# Altium schematic symbol library Vowstar_Module.SchLib: 55 symbols
Pins are listed as number, name and electrical type; pins without a type are passive.

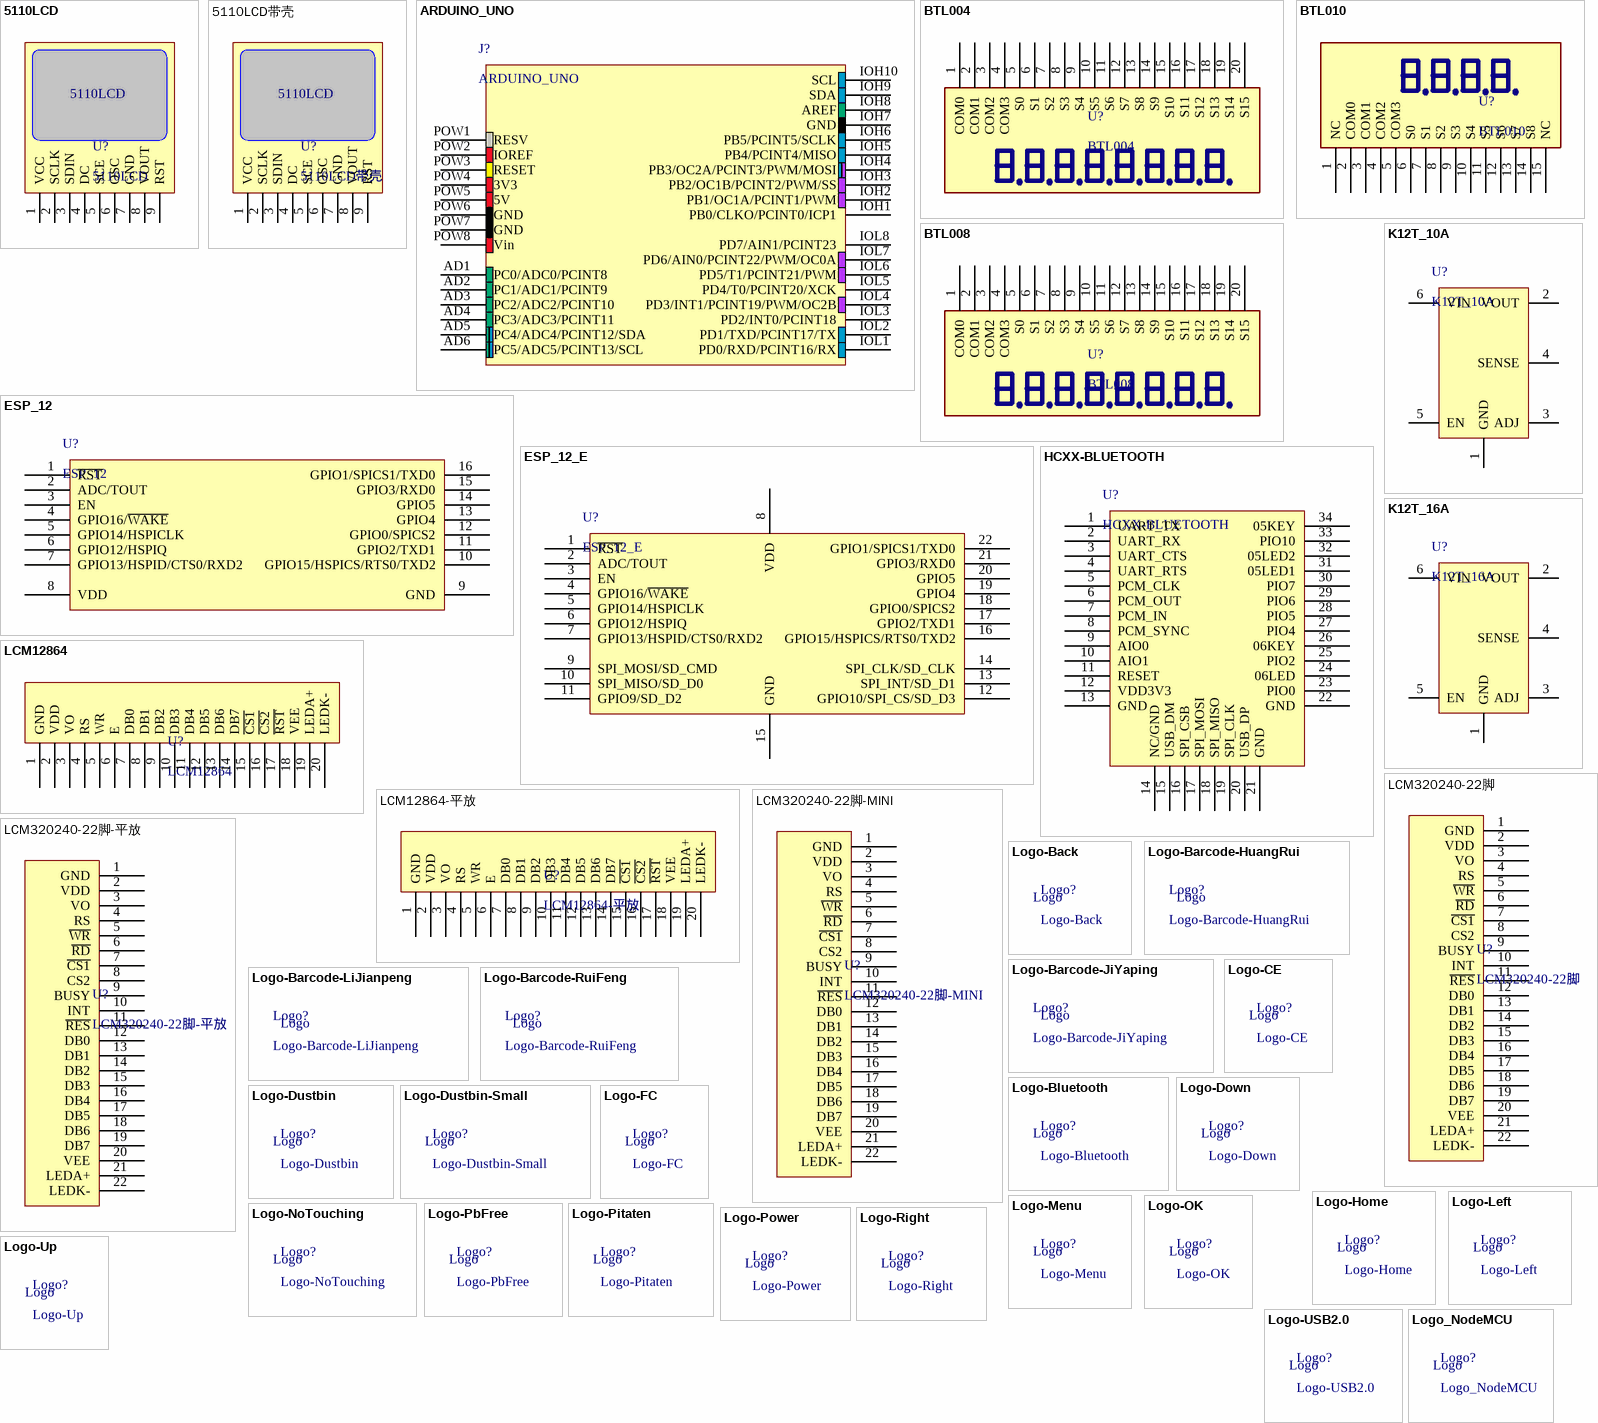
[diagram p0: symbols 5110LCD to Logo_NodeMCU]

## 5110LCD
designator U?
footprint 5110LCD
pins: 1 VCC, 2 SCLK, 3 SDIN, 4 DC, 5 SCE, 6 OSC, 7 GND, 8 VOUT, 9 RST

## 5110LCD带壳
designator U?
footprint 5110LCD带壳
pins: 1 VCC, 2 SCLK, 3 SDIN, 4 DC, 5 SCE, 6 OSC, 7 GND, 8 VOUT, 9 RST
text: 5110LCD

## ARDUINO_UNO
designator J?
Arduino UNO Connector
footprint ARDUINO_UNO
pins: AD1 PC0/ADC0/PCINT8, AD2 PC1/ADC1/PCINT9, AD3 PC2/ADC2/PCINT10, AD4 PC3/ADC3/PCINT11, AD5 PC4/ADC4/PCINT12/SDA, AD6 PC5/ADC5/PCINT13/SCL, IOH1 PB0/CLKO/PCINT0/ICP1, IOH2 PB1/OC1A/PCINT1/PWM, IOH3 PB2/OC1B/PCINT2/PWM/SS, IOH4 PB3/OC2A/PCINT3/PWM/MOSI, IOH5 PB4/PCINT4/MISO, IOH6 PB5/PCINT5/SCLK, IOH7 GND, IOH8 AREF, IOH9 SDA, IOH10 SCL, IOL1 PD0/RXD/PCINT16/RX, IOL2 PD1/TXD/PCINT17/TX, IOL3 PD2/INT0/PCINT18, IOL4 PD3/INT1/PCINT19/PWM/OC2B, IOL5 PD4/T0/PCINT20/XCK, IOL6 PD5/T1/PCINT21/PWM, IOL7 PD6/AIN0/PCINT22/PWM/OC0A, IOL8 PD7/AIN1/PCINT23, POW1 RESV, POW2 IOREF, POW3 RESET, POW4 3V3, POW5 5V, POW6 GND, POW7 GND, POW8 Vin

## BTL004
designator U?
footprint BTL004
pins: 1 COM0, 2 COM1, 3 COM2, 4 COM3, 5 S0, 6 S1, 7 S2, 8 S3, 9 S4, 10 S5, 11 S6, 12 S7, 13 S8, 14 S9, 15 S10, 16 S11, 17 S12, 18 S13, 19 S14, 20 S15

## BTL008
designator U?
footprint BTL008
pins: 1 COM0, 2 COM1, 3 COM2, 4 COM3, 5 S0, 6 S1, 7 S2, 8 S3, 9 S4, 10 S5, 11 S6, 12 S7, 13 S8, 14 S9, 15 S10, 16 S11, 17 S12, 18 S13, 19 S14, 20 S15

## BTL010
designator U?
footprint BTL010
pins: 1 NC, 2 COM0, 3 COM1, 4 COM2, 5 COM3, 6 S0, 7 S1, 8 S2, 9 S3, 10 S4, 11 S5, 12 S6, 13 S7, 14 S8, 15 NC

## ESP_12
designator U?
ESP-12 Wi-Fi Module by AI-Thinker; IC: ESP8266-EX; Vendor: Ai-thinker
footprint ESP_12 (ESP-12 Wi-Fi Module by AI-Thinker)
pins: 1 ~{RST} "Reset", 2 ADC/TOUT "ADC Input Or TOUT Output", 3 EN "Chip enable", 4 GPIO16/~{WAKE} "GPIO16 or Deep-Sleep Wakeup", 5 GPIO14/HSPICLK "GPIO14 or SPI CLK", 6 GPIO12/HSPIQ "GPIO12 or SPIQ", 7 GPIO13/HSPID/CTS0/RXD2 "GPIO13 or SPID", 8 VDD "Power supply", 9 GND "Power ground", 10 GPIO15/HSPICS/RTS0/TXD2 "GPIO15 or SPICS", 11 GPIO2/TXD1 "GPIO2 or TX", 12 GPIO0/SPICS2 "GPIO0 or SPICS2", 13 GPIO4 "GPIO5", 14 GPIO5 "GPIO4", 15 GPIO3/RXD0 "GPIO3 or UART RXD", 16 GPIO1/SPICS1/TXD0 "GPIO1 or UART TXD"

## ESP_12_E
designator U?
ESP-12 Wi-Fi Module by AI-Thinker; IC: ESP8266-EX; Vendor: Ai-thinker
footprint ESP_12_E (ESP-12 Wi-Fi Module by AI-Thinker)
footprint ESP_12_E_L (ESP-12 Wi-Fi Module by AI-Thinker)
footprint ESP_12_F (ESP-12 Wi-Fi Module by AI-Thinker)
footprint ESP_12_F_L (ESP-12 Wi-Fi Module by AI-Thinker)
pins: 1 ~{RST} "Reset", 2 ADC/TOUT "ADC Input Or TOUT Output", 3 EN "Chip enable", 4 GPIO16/~{WAKE} "GPIO16 or Deep-Sleep Wakeup", 5 GPIO14/HSPICLK "GPIO14 or SPI CLK", 6 GPIO12/HSPIQ "GPIO12 or SPIQ", 7 GPIO13/HSPID/CTS0/RXD2 "GPIO13 or SPID", 8 VDD "Power supply", 9 SPI_MOSI/SD_CMD "GPIO14 or SPI CLK", 10 SPI_MISO/SD_D0 "GPIO12 or SPIQ", 11 GPIO9/SD_D2 "GPIO13 or SPID", 12 GPIO10/SPI_CS/SD_D3 "GPIO15 or SPICS", 13 SPI_INT/SD_D1 "GPIO2 or TX", 14 SPI_CLK/SD_CLK "GPIO0 or SPICS2", 15 GND "Power ground", 16 GPIO15/HSPICS/RTS0/TXD2 "GPIO15 or SPICS", 17 GPIO2/TXD1 "GPIO2 or TX", 18 GPIO0/SPICS2 "GPIO0 or SPICS2", 19 GPIO4 "GPIO5", 20 GPIO5 "GPIO4", 21 GPIO3/RXD0 "GPIO3 or UART RXD", 22 GPIO1/SPICS1/TXD0 "GPIO1 or UART TXD"

## HCXX-BLUETOOTH
designator U?
footprint HCXX-BLUETOOTH
pins: 1 UART_TX, 2 UART_RX, 3 UART_CTS, 4 UART_RTS, 5 PCM_CLK, 6 PCM_OUT, 7 PCM_IN, 8 PCM_SYNC, 9 AIO0, 10 AIO1, 11 RESET, 12 VDD3V3, 13 GND, 14 NC/GND, 15 USB_DM, 16 SPI_CSB, 17 SPI_MOSI, 18 SPI_MISO, 19 SPI_CLK, 20 USB_DP, 21 GND, 22 GND, 23 PIO0, 24 06LED, 25 PIO2, 26 06KEY, 27 PIO4, 28 PIO5, 29 PIO6, 30 PIO7, 31 05LED1, 32 05LED2, 33 PIO10, 34 05KEY

## K12T_10A
designator U?
Non-isolated & regulated 10A, 16A single output / POL power converter
footprint K12T_POL_MODULE (Non-isolated voltage regulator single 10/16A output, POL module power supply)
pins: 1 GND "Ground pin.", 2 VOUT "Power output", 3 ADJ "Trim function for output voltage adjustment", 4 SENSE "Remote Sense feedback Pin", 5 EN "Drive this pin to a logic-high to enable the IC. Drive to a logic-low to disable the IC and enter micro-power shutdown mode.", 6 VIN "Power supply Pin"

## K12T_16A
designator U?
Non-isolated & regulated 10A, 16A single output / POL power converter
footprint K12T_POL_MODULE (Non-isolated voltage regulator single 10/16A output, POL module power supply)
pins: 1 GND "Ground pin.", 2 VOUT "Power output", 3 ADJ "Trim function for output voltage adjustment", 4 SENSE "Remote Sense feedback Pin", 5 EN "Drive this pin to a logic-high to enable the IC. Drive to a logic-low to disable the IC and enter micro-power shutdown mode.", 6 VIN "Power supply Pin"

## LCM12864
designator U?
footprint LCM12864
pins: 1 GND, 2 VDD, 3 VO, 4 RS, 5 WR, 6 E, 7 DB0, 8 DB1, 9 DB2, 10 DB3, 11 DB4, 12 DB5, 13 DB6, 14 DB7, 15 ~{CS1}, 16 ~{CS2}, 17 ~{RST}, 18 VEE, 19 LEDA+, 20 LEDK-

## LCM12864-平放
designator U?
footprint LCM12864-平放
pins: 1 GND, 2 VDD, 3 VO, 4 RS, 5 WR, 6 E, 7 DB0, 8 DB1, 9 DB2, 10 DB3, 11 DB4, 12 DB5, 13 DB6, 14 DB7, 15 ~{CS1}, 16 ~{CS2}, 17 ~{RST}, 18 VEE, 19 LEDA+, 20 LEDK-

## LCM320240-22脚
designator U?
footprint LCM320240-22脚
pins: 1 GND, 2 VDD, 3 VO, 4 RS, 5 ~{WR}, 6 ~{RD}, 7 ~{CS1}, 8 CS2, 9 BUSY, 10 INT, 11 ~{RES}, 12 DB0, 13 DB1, 14 DB2, 15 DB3, 16 DB4, 17 DB5, 18 DB6, 19 DB7, 20 VEE, 21 LEDA+, 22 LEDK-

## LCM320240-22脚-MINI
designator U?
footprint LCM320240-22脚-Mini (LCM320240-22脚)
pins: 1 GND, 2 VDD, 3 VO, 4 RS, 5 ~{WR}, 6 ~{RD}, 7 ~{CS1}, 8 CS2, 9 BUSY, 10 INT, 11 ~{RES}, 12 DB0, 13 DB1, 14 DB2, 15 DB3, 16 DB4, 17 DB5, 18 DB6, 19 DB7, 20 VEE, 21 LEDA+, 22 LEDK-

## LCM320240-22脚-平放
designator U?
footprint LCM320240-22脚-平放
pins: 1 GND, 2 VDD, 3 VO, 4 RS, 5 ~{WR}, 6 ~{RD}, 7 ~{CS1}, 8 CS2, 9 BUSY, 10 INT, 11 ~{RES}, 12 DB0, 13 DB1, 14 DB2, 15 DB3, 16 DB4, 17 DB5, 18 DB6, 19 DB7, 20 VEE, 21 LEDA+, 22 LEDK-

## Logo-Back
designator Logo?
footprint LOGO-BACK
text: Logo

## Logo-Barcode-HuangRui
designator Logo?
footprint Logo-Barcode-HuangRui
footprint Logo-Barcode-HuangRui-Big (Logo-Barcode-HuangRui)
text: Logo

## Logo-Barcode-JiYaping
designator Logo?
footprint Logo-Barcode-JiYaping-Big (Logo-Barcode-JiYaping)
text: Logo

## Logo-Barcode-LiJianpeng
designator Logo?
footprint Logo-Barcode-LiJianpeng
text: Logo

## Logo-Barcode-RuiFeng
designator Logo?
footprint LOGO-BARCODE-RUIFENG
text: Logo

## Logo-Bluetooth
designator Logo?
footprint Logo-Bluetooth
text: Logo

## Logo-CE
designator Logo?
footprint Logo-CE
text: Logo

## Logo-Down
designator Logo?
footprint LOGO-DOWN
text: Logo

## Logo-Dustbin
designator Logo?
footprint LOGO-DUSTBIN
text: Logo

## Logo-Dustbin-Small
designator Logo?
footprint Logo-Dustbin-Small
text: Logo

## Logo-FC
designator Logo?
footprint Logo-FC
text: Logo

## Logo-Home
designator Logo?
footprint LOGO-HOME
text: Logo

## Logo-Left
designator Logo?
footprint LOGO-LEFT
text: Logo

## Logo-Menu
designator Logo?
footprint LOGO-MENU
text: Logo

## Logo-NoTouching
designator Logo?
footprint LOGO-NOTOUCHING
text: Logo

## Logo-OK
designator Logo?
footprint LOGO-OK
text: Logo

## Logo-PbFree
designator Logo?
footprint LOGO-PBFREE
text: Logo

## Logo-Pitaten
designator Logo?
footprint Logo-Pitaten
text: Logo

## Logo-Power
designator Logo?
footprint LOGO-POWER
text: Logo

## Logo-Right
designator Logo?
footprint LOGO-RIGHT
text: Logo

## Logo-Up
designator Logo?
footprint LOGO-UP
text: Logo

## Logo-USB2.0
designator Logo?
footprint Logo-USB2.0
text: Logo

## Logo_NodeMCU
designator Logo?
Logo NodeMCU
footprint Logo_NodeMCU_700x992 (Logo NodeMCU)
text: Logo

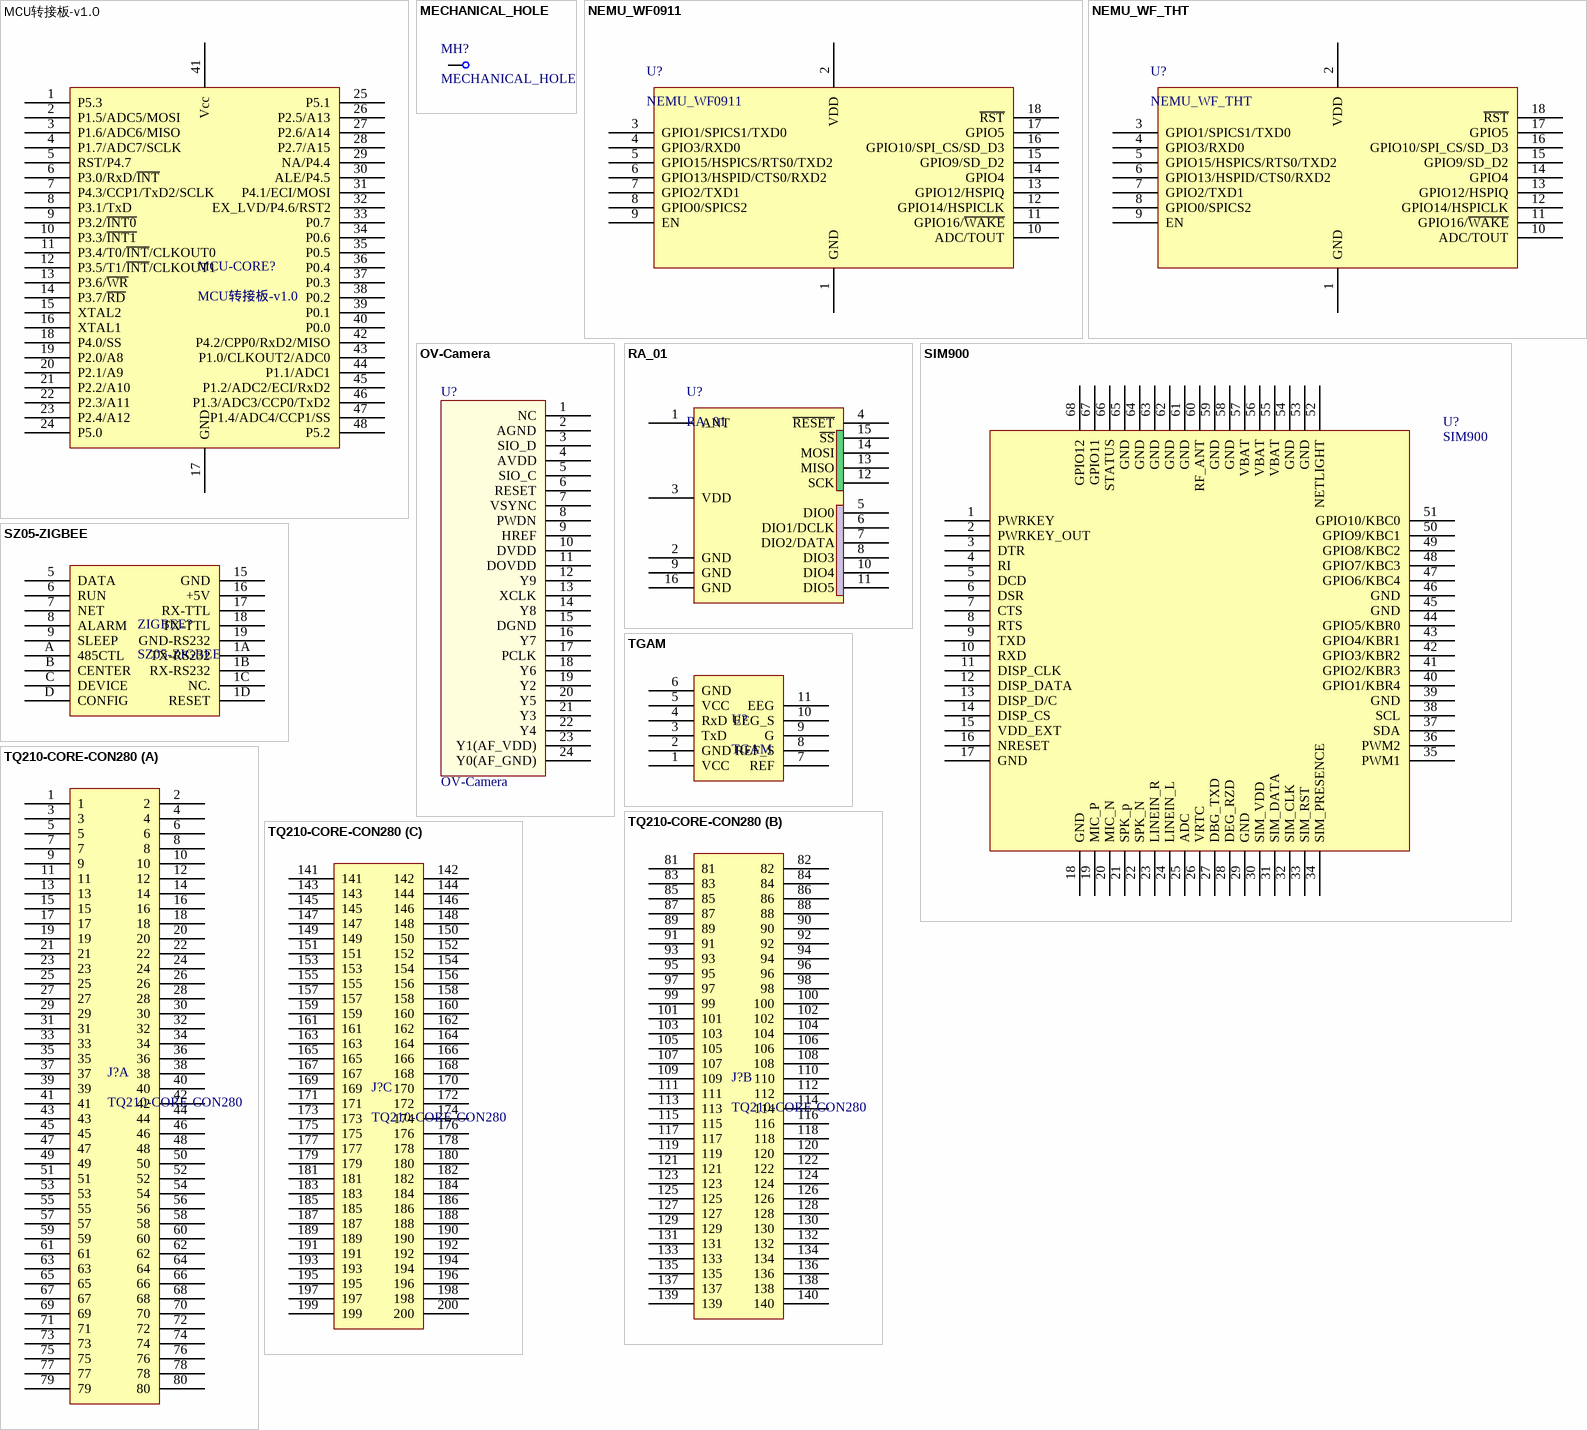
[diagram p1: symbols MCU转接板-v1.0 to TQ210-CORE-CON280]

## MCU转接板-v1.0
designator MCU-CORE?
footprint MCU转接板-v1.0
pins: 1 P5.3, 2 P1.5/ADC5/MOSI, 3 P1.6/ADC6/MISO, 4 P1.7/ADC7/SCLK, 5 RST/P4.7, 6 P3.0/RxD/~{INT}, 7 P4.3/CCP1/TxD2/SCLK, 8 P3.1/TxD, 9 P3.2/~{INT0}, 10 P3.3/~{INT1}, 11 P3.4/T0/~{INT}/CLKOUT0, 12 P3.5/T1/~{INT}/CLKOUT1, 13 P3.6/~{WR}, 14 P3.7/~{RD}, 15 XTAL2, 16 XTAL1, 17 GND, 18 P4.0/SS, 19 P2.0/A8, 20 P2.1/A9, 21 P2.2/A10, 22 P2.3/A11, 23 P2.4/A12, 24 P5.0, 25 P5.1, 26 P2.5/A13, 27 P2.6/A14, 28 P2.7/A15, 29 NA/P4.4, 30 ALE/P4.5, 31 P4.1/ECI/MOSI, 32 EX_LVD/P4.6/RST2, 33 P0.7, 34 P0.6, 35 P0.5, 36 P0.4, 37 P0.3, 38 P0.2, 39 P0.1, 40 P0.0, 41 Vcc, 42 P4.2/CPP0/RxD2/MISO, 43 P1.0/CLKOUT2/ADC0, 44 P1.1/ADC1, 45 P1.2/ADC2/ECI/RxD2, 46 P1.3/ADC3/CCP0/TxD2, 47 P1.4/ADC4/CCP1/SS, 48 P5.2

## MECHANICAL_HOLE
designator MH?
Mechanical hole for mounting and fixing
footprint MH_3MM_6VIA (Mechanical hole 3mm , for installation and fixing)
footprint MH_3MM_12VIA (Mechanical hole 3mm , for installation and fixing)
pins: 1

## NEMU_WF0911
designator U?
NEMU_WF0911 Wi-Fi Module by Vowstar Co., Ltd.; IC: ESP8266-EX; Vendor: Vowstar Co., Ltd.
footprint NEMU_WF1006 (NEMU Wi-Fi Module by Vowstar)
pins: 1 GND "Power ground", 2 VDD "Power supply", 3 GPIO1/SPICS1/TXD0 "GPIO1 or UART TXD", 4 GPIO3/RXD0 "GPIO3 or UART RXD", 5 GPIO15/HSPICS/RTS0/TXD2 "GPIO15 or SPICS", 6 GPIO13/HSPID/CTS0/RXD2 "GPIO13 or SPID", 7 GPIO2/TXD1 "GPIO2 or TX", 8 GPIO0/SPICS2 "GPIO0 or SPICS2", 9 EN "Chip enable", 10 ADC/TOUT "ADC Input Or TOUT Output", 11 GPIO16/~{WAKE} "GPIO16 or Deep-Sleep Wakeup", 12 GPIO14/HSPICLK "GPIO14 or SPI CLK", 13 GPIO12/HSPIQ "GPIO12 or SPIQ", 14 GPIO4 "GPIO5", 15 GPIO9/SD_D2 "GPIO13 or SPID", 16 GPIO10/SPI_CS/SD_D3 "GPIO15 or SPICS", 17 GPIO5 "GPIO4", 18 ~{RST} "Reset"

## NEMU_WF_THT
designator U?
NEMU WF1006/0911 Wi-Fi Module, THT Package.; IC: ESP8266-EX; Vendor: Vowstar Co., Ltd.
footprint NEMU_WF1006 (NEMU Wi-Fi Module by Vowstar)
footprint NEMU_WF0911 (NEMU Wi-Fi Module by Vowstar)
pins: 1 GND "Power ground", 2 VDD "Power supply", 3 GPIO1/SPICS1/TXD0 "GPIO1 or UART TXD", 4 GPIO3/RXD0 "GPIO3 or UART RXD", 5 GPIO15/HSPICS/RTS0/TXD2 "GPIO15 or SPICS", 6 GPIO13/HSPID/CTS0/RXD2 "GPIO13 or SPID", 7 GPIO2/TXD1 "GPIO2 or TX", 8 GPIO0/SPICS2 "GPIO0 or SPICS2", 9 EN "Chip enable", 10 ADC/TOUT "ADC Input Or TOUT Output", 11 GPIO16/~{WAKE} "GPIO16 or Deep-Sleep Wakeup", 12 GPIO14/HSPICLK "GPIO14 or SPI CLK", 13 GPIO12/HSPIQ "GPIO12 or SPIQ", 14 GPIO4 "GPIO5", 15 GPIO9/SD_D2 "GPIO13 or SPID", 16 GPIO10/SPI_CS/SD_D3 "GPIO15 or SPICS", 17 GPIO5 "GPIO4", 18 ~{RST} "Reset"

## OV-Camera
designator U?
OV9650/OV2460/OV3640/OV5640
footprint OV-Camera (OV9650/OV2460/OV3640/OV5640)
pins: 1 NC, 2 AGND, 3 SIO_D, 4 AVDD, 5 SIO_C, 6 RESET, 7 VSYNC, 8 PWDN, 9 HREF, 10 DVDD, 11 DOVDD, 12 Y9, 13 XCLK, 14 Y8, 15 DGND, 16 Y7, 17 PCLK, 18 Y6, 19 Y2, 20 Y5, 21 Y3, 22 Y4, 23 Y1(AF_VDD), 24 Y0(AF_GND)

## RA_01
designator U?
RA_01 LoRa Module by AI-Thinker; IC: SX1278; Vendor: Ai-thinker
footprint RA_01 (RA_01 LoRa Module by AI-Thinker)
pins: 1 ANT "RF Input and RF output for bands 2&3", 2 GND "Exposed ground pad", 3 VDD "Power Supply voltage", 4 ~{RESET} "Reset trigger input", 5 DIO0 "Digital I/O, software configured", 6 DIO1/DCLK "Digital I/O, software configured", 7 DIO2/DATA "Digital I/O, software configured", 8 DIO3 "Digital I/O, software configured", 9 GND "Exposed ground pad", 10 DIO4 "Digital I/O, software configured", 11 DIO5 "Digital I/O, software configured", 12 SCK "SPI Clock input", 13 MISO "SPI Data output", 14 MOSI "SPI Data input", 15 ~{SS} "SPI Chip select input", 16 GND "Exposed ground pad"

## SIM900
designator U?
SIM900/SIM900A
footprint SIM900
footprint SIM900
pins: 1 PWRKEY, 2 PWRKEY_OUT, 3 DTR, 4 RI, 5 DCD, 6 DSR, 7 CTS, 8 RTS, 9 TXD, 10 RXD, 11 DISP_CLK, 12 DISP_DATA, 13 DISP_D/C, 14 DISP_CS, 15 VDD_EXT, 16 NRESET, 17 GND, 18 GND, 19 MIC_P, 20 MIC_N, 21 SPK_p, 22 SPK_N, 23 LINEIN_R, 24 LINEIN_L, 25 ADC, 26 VRTC, 27 DBG_TXD, 28 DEG_RZD, 29 GND, 30 SIM_VDD, 31 SIM_DATA, 32 SIM_CLK, 33 SIM_RST, 34 SIM_PRESENCE, 35 PWM1, 36 PWM2, 37 SDA, 38 SCL, 39 GND, 40 GPIO1/KBR4, 41 GPIO2/KBR3, 42 GPIO3/KBR2, 43 GPIO4/KBR1, 44 GPIO5/KBR0, 45 GND, 46 GND, 47 GPIO6/KBC4, 48 GPIO7/KBC3, 49 GPIO8/KBC2, 50 GPIO9/KBC1, 51 GPIO10/KBC0, 52 NETLIGHT, 53 GND, 54 GND, 55 VBAT, 56 VBAT, 57 VBAT, 58 GND, 59 GND, 60 RF_ANT, 61 GND, 62 GND, 63 GND, 64 GND, 65 GND, 66 STATUS, 67 GPIO11, 68 GPIO12

## SZ05-ZIGBEE
designator ZIGBEE?
footprint SZ05-ZIGBEE
pins: 1A TX-RS232, 1B RX-RS232, 1C NC., 1D RESET, 5 DATA, 6 RUN, 7 NET, 8 ALARM, 9 SLEEP, 15 GND, 16 +5V, 17 RX-TTL, 18 TX-TTL, 19 GND-RS232, A 485CTL, B CENTER, C DEVICE, D CONFIG

## TGAM
designator U?
footprint TGAM
pins: 1 VCC, 2 GND, 3 TxD, 4 RxD, 5 VCC, 6 GND, 7 REF, 8 REF_S, 9 G, 10 EEG_S, 11 EEG

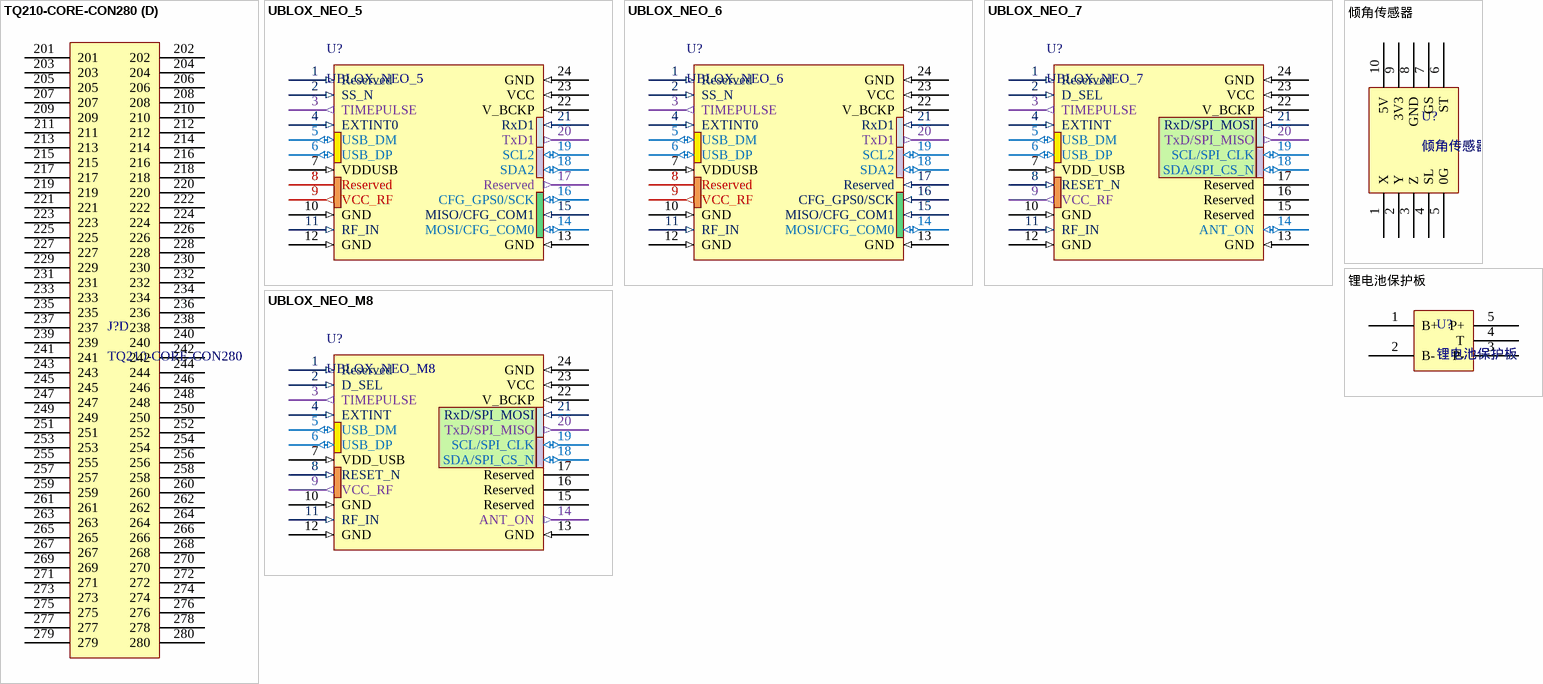
[diagram p2: symbols TQ210-CORE-CON280 to 锂电池保护板]

## TQ210-CORE-CON280
designator J?
footprint TQ210-CORE-CON280
part A pins: 1, 2, 3, 4, 5, 6, 7, 8, 9, 10, 11, 12, 13, 14, 15, 16, 17, 18, 19, 20, 21, 22, 23, 24, 25, 26, 27, 28, 29, 30, 31, 32, 33, 34, 35, 36, 37, 38, 39, 40, 41, 42, 43, 44, 45, 46, 47, 48, 49, 50, 51, 52, 53, 54, 55, 56, 57, 58, 59, 60, 61, 62, 63, 64, 65, 66, 67, 68, 69, 70, 71, 72, 73, 74, 75, 76, 77, 78, 79, 80
part B pins: 81, 82, 83, 84, 85, 86, 87, 88, 89, 90, 91, 92, 93, 94, 95, 96, 97, 98, 99, 100, 101, 102, 103, 104, 105, 106, 107, 108, 109, 110, 111, 112, 113, 114, 115, 116, 117, 118, 119, 120, 121, 122, 123, 124, 125, 126, 127, 128, 129, 130, 131, 132, 133, 134, 135, 136, 137, 138, 139, 140
part C pins: 141, 142, 143, 144, 145, 146, 147, 148, 149, 150, 151, 152, 153, 154, 155, 156, 157, 158, 159, 160, 161, 162, 163, 164, 165, 166, 167, 168, 169, 170, 171, 172, 173, 174, 175, 176, 177, 178, 179, 180, 181, 182, 183, 184, 185, 186, 187, 188, 189, 190, 191, 192, 193, 194, 195, 196, 197, 198, 199, 200
part D pins: 201, 202, 203, 204, 205, 206, 207, 208, 209, 210, 211, 212, 213, 214, 215, 216, 217, 218, 219, 220, 221, 222, 223, 224, 225, 226, 227, 228, 229, 230, 231, 232, 233, 234, 235, 236, 237, 238, 239, 240, 241, 242, 243, 244, 245, 246, 247, 248, 249, 250, 251, 252, 253, 254, 255, 256, 257, 258, 259, 260, 261, 262, 263, 264, 265, 266, 267, 268, 269, 270, 271, 272, 273, 274, 275, 276, 277, 278, 279, 280

## UBLOX_NEO_5
designator U?
UBLOX NEO 5,6,7,M8 Module
footprint UBLOX-NEO (UBLOX GPS Module NEO 5,6,7,M8)
pins: 1 Reserved (in), 2 SS_N (in) "SPI Slave Select (Planned)", 3 TIMEPULSE (out) "Time pulse (1PPS)", 4 EXTINT0 (in) "External Interrupt Pin", 5 USB_DM (io) "USB Data", 6 USB_DP (io) "USB Data", 7 VDDUSB (in) "USB Supply", 8 Reserved "See Hardware Integration Manual, Pin 8 and 9 must be connected together.", 9 VCC_RF (out) "Output Voltage RF section, Pin 8 and 9 must be connected together.", 10 GND (in) "Ground", 11 RF_IN (in) "GPS signal input", 12 GND (in) "Ground", 13 GND (in) "Ground", 14 MOSI/CFG_COM0 (io) "SPI MOSI / Configuration Pin (Planned)", 15 MISO/CFG_COM1 (in) "SPI MISO (Planned) / Configuration Pin. Leave open if not used.", 16 CFG_GPS0/SCK (io) "Power Mode Configuration Pin. SPI Clock(Planned)", 17 Reserved (out) "Not Connected", 18 SDA2 (io) "DDC Data", 19 SCL2 (io) "DDC Clock", 20 TxD1 (out) "Serial Port 1", 21 RxD1 (in) "Serial Port 1", 22 V_BCKP (in) "Backup voltage supply", 23 VCC (in) "Supply voltage", 24 GND (in) "Ground"

## UBLOX_NEO_6
designator U?
UBLOX NEO 5,6,7,M8 Module
footprint UBLOX-NEO (UBLOX GPS Module NEO 5,6,7,M8)
pins: 1 Reserved (in), 2 SS_N (in) "SPI Slave Select", 3 TIMEPULSE (out) "Timepulse (1PPS)", 4 EXTINT0 (in) "External Interrupt Pin", 5 USB_DM (io) "USB Data", 6 USB_DP (io) "USB Data", 7 VDDUSB (in) "USB Supply", 8 Reserved "See Hardware Integration Manual, Pin 8 and 9 must be connected together.", 9 VCC_RF (out) "Output Voltage RF section, Pin 8 and 9 must be connected together.", 10 GND (in) "Ground", 11 RF_IN (in) "GPS signal input", 12 GND (in) "Ground", 13 GND (in) "Ground", 14 MOSI/CFG_COM0 (io) "SPI MOSI / Configuration Pin. Leave open if not used.", 15 MISO/CFG_COM1 (in) "SPI MISO / Configuration Pin. Leave open if not used.", 16 CFG_GPS0/SCK (in) "Power Mode Configuration Pin / SPI Clock. Leave open if not used.", 17 Reserved (in), 18 SDA2 (io) "DDC Data", 19 SCL2 (io) "DDC Clock", 20 TxD1 (out) "Serial Port 1", 21 RxD1 (in) "Serial Port 1", 22 V_BCKP (in) "Backup voltage supply", 23 VCC (in) "Supply voltage", 24 GND (in) "Ground"

## UBLOX_NEO_7
designator U?
UBLOX NEO 5,6,7,M8 Module
footprint UBLOX-NEO (UBLOX GPS Module NEO 5,6,7,M8)
pins: 1 Reserved (in), 2 D_SEL (in) "Interface select", 3 TIMEPULSE (out) "Time pulse (1PPS)", 4 EXTINT (in) "External Interrupt Pin", 5 USB_DM (io) "USB Data", 6 USB_DP (io) "USB Data", 7 VDD_USB (in) "USB Supply", 8 RESET_N (in), 9 VCC_RF (out) "Output Voltage RF section", 10 GND (in) "Ground", 11 RF_IN (in) "GNSS signal input", 12 GND (in) "Ground", 13 GND (in) "Ground", 14 ANT_ON (io) "Antenna control", 15 Reserved, 16 Reserved, 17 Reserved, 18 SDA/SPI_CS_N (io) "DDC Data if D_SEL =1 (or open) SPI Chip Select if D_SEL = 0", 19 SCL/SPI_CLK (io) "DDC Clock if D_SEL =1(or open) SPI Clock if D_SEL = 0", 20 TxD/SPI_MISO (out) "Serial Port if D_SEL =1(or open) SPI MISO if D_SEL = 0", 21 RxD/SPI_MOSI (in) "Serial Port if D_SEL =1(or open) SPI MOSI if D_SEL = 0", 22 V_BCKP (in) "Backup voltage supply", 23 VCC (in) "Supply voltage", 24 GND (in) "Ground"

## UBLOX_NEO_M8
designator U?
UBLOX NEO 5,6,7,M8 Module
footprint UBLOX-NEO (UBLOX GPS Module NEO 5,6,7,M8)
pins: 1 Reserved (in), 2 D_SEL (in) "Interface select", 3 TIMEPULSE (out) "Time pulse (1PPS)", 4 EXTINT (in) "External Interrupt Pin", 5 USB_DM (io) "USB Data", 6 USB_DP (io) "USB Data", 7 VDD_USB (in) "USB Supply", 8 RESET_N (in), 9 VCC_RF (out) "Output Voltage RF section", 10 GND (in) "Ground", 11 RF_IN (in) "GNSS signal input", 12 GND (in) "Ground", 13 GND (in) "Ground", 14 ANT_ON (out) "Antenna control", 15 Reserved, 16 Reserved, 17 Reserved, 18 SDA/SPI_CS_N (io) "DDC Data if D_SEL =1 (or open) SPI Chip Select if D_SEL = 0", 19 SCL/SPI_CLK (io) "DDC Clock if D_SEL =1(or open) SPI Clock if D_SEL = 0", 20 TxD/SPI_MISO (out) "Serial Port if D_SEL =1(or open) SPI MISO if D_SEL = 0", 21 RxD/SPI_MOSI (in) "Serial Port if D_SEL =1(or open) SPI MOSI if D_SEL = 0", 22 V_BCKP (in) "Backup voltage supply", 23 VCC (in) "Supply voltage", 24 GND (in) "Ground"

## 倾角传感器
designator U?
footprint 倾角传感器
pins: 1 X, 2 Y, 3 Z, 4 SL, 5 0G, 6 ST, 7 GS, 8 GND, 9 3V3, 10 5V

## 锂电池保护板
designator U?
footprint 锂电池保护板
pins: 1 B+, 2 B-, 3 P-, 4 T, 5 P+